# Altium footprint library VLS4020CX1R5MH.PcbLib: 1 footprints
Each footprint in its own frame and in the unit in brackets; x right, y up, seen from the top. Pads: shape width x height; smd on the part's side, far side on the other; paste and mask are expansions set on the pad; w line width, h text height; cw(c..) or ccw(c..) is an arc to the next point about the centre after c.
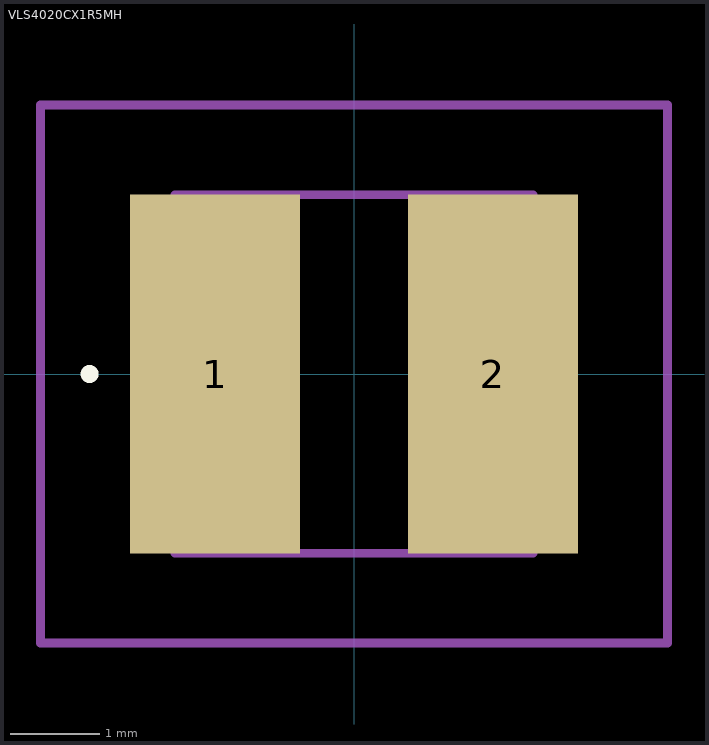
[diagram p0: the footprint, top view; thin cyan lines are the x and y axes]

## VLS4020CX1R5MH [mm]
pads (2):
  rect 1.9x4 smd: 1(-1.55,0) 2(1.55,0)
Top Overlay:
  lines w0.1: -3,0 -3,0 ; -3,0 ccw(c-2.95,0) -2.9,0 ; -3,0 cw(c-2.95,0) -2.9,0 ; -2.9,0 -2.9,0
Mechanical 15:
  lines w0.1: -2,-2 2,-2 2,2 -2,2 -2,-2
Mechanical 20:
  lines w0.1: -3.5,-3 3.5,-3 3.5,3 -3.5,3 -3.5,-3